# Altium footprint library chip_4026_CS_BOURNS.PcbLib: 1 footprints
Each footprint in its own frame and in the unit in brackets; x right, y up, seen from the top. Pads: shape width x height; smd on the part's side, far side on the other; paste and mask are expansions set on the pad; w line width, h text height; cw(c..) or ccw(c..) is an arc to the next point about the centre after c.
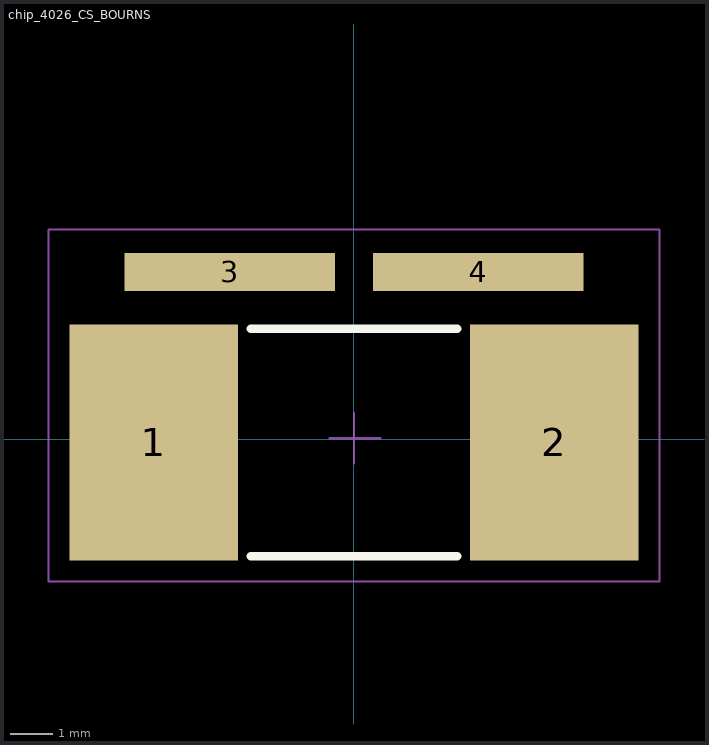
[diagram p0: the footprint, top view; thin cyan lines are the x and y axes]

## chip_4026_CS_BOURNS [mm]
pads (4):
  rect 4x5.6 smd: 1(-4.75,-0.075) 2(4.75,-0.075)
  rect 5x0.9 smd: 3(-2.95,3.975) 4(2.95,3.975)
Top Overlay:
  lines w0.2: -2.45,-2.775 2.45,-2.775 ; -2.45,2.625 2.45,2.625
Mechanical 15:
  lines w0.05: -0.575,0.025 0.625,0.025 ; 0,-0.575 0,0.625 ; -7.25,-3.375 -7.25,4.975 7.25,4.975 7.25,-3.375 -7.25,-3.375